# Altium schematic symbol library mcu_modules.SchLib: 15 symbols
Pins are listed as number, name and electrical type; pins without a type are passive.

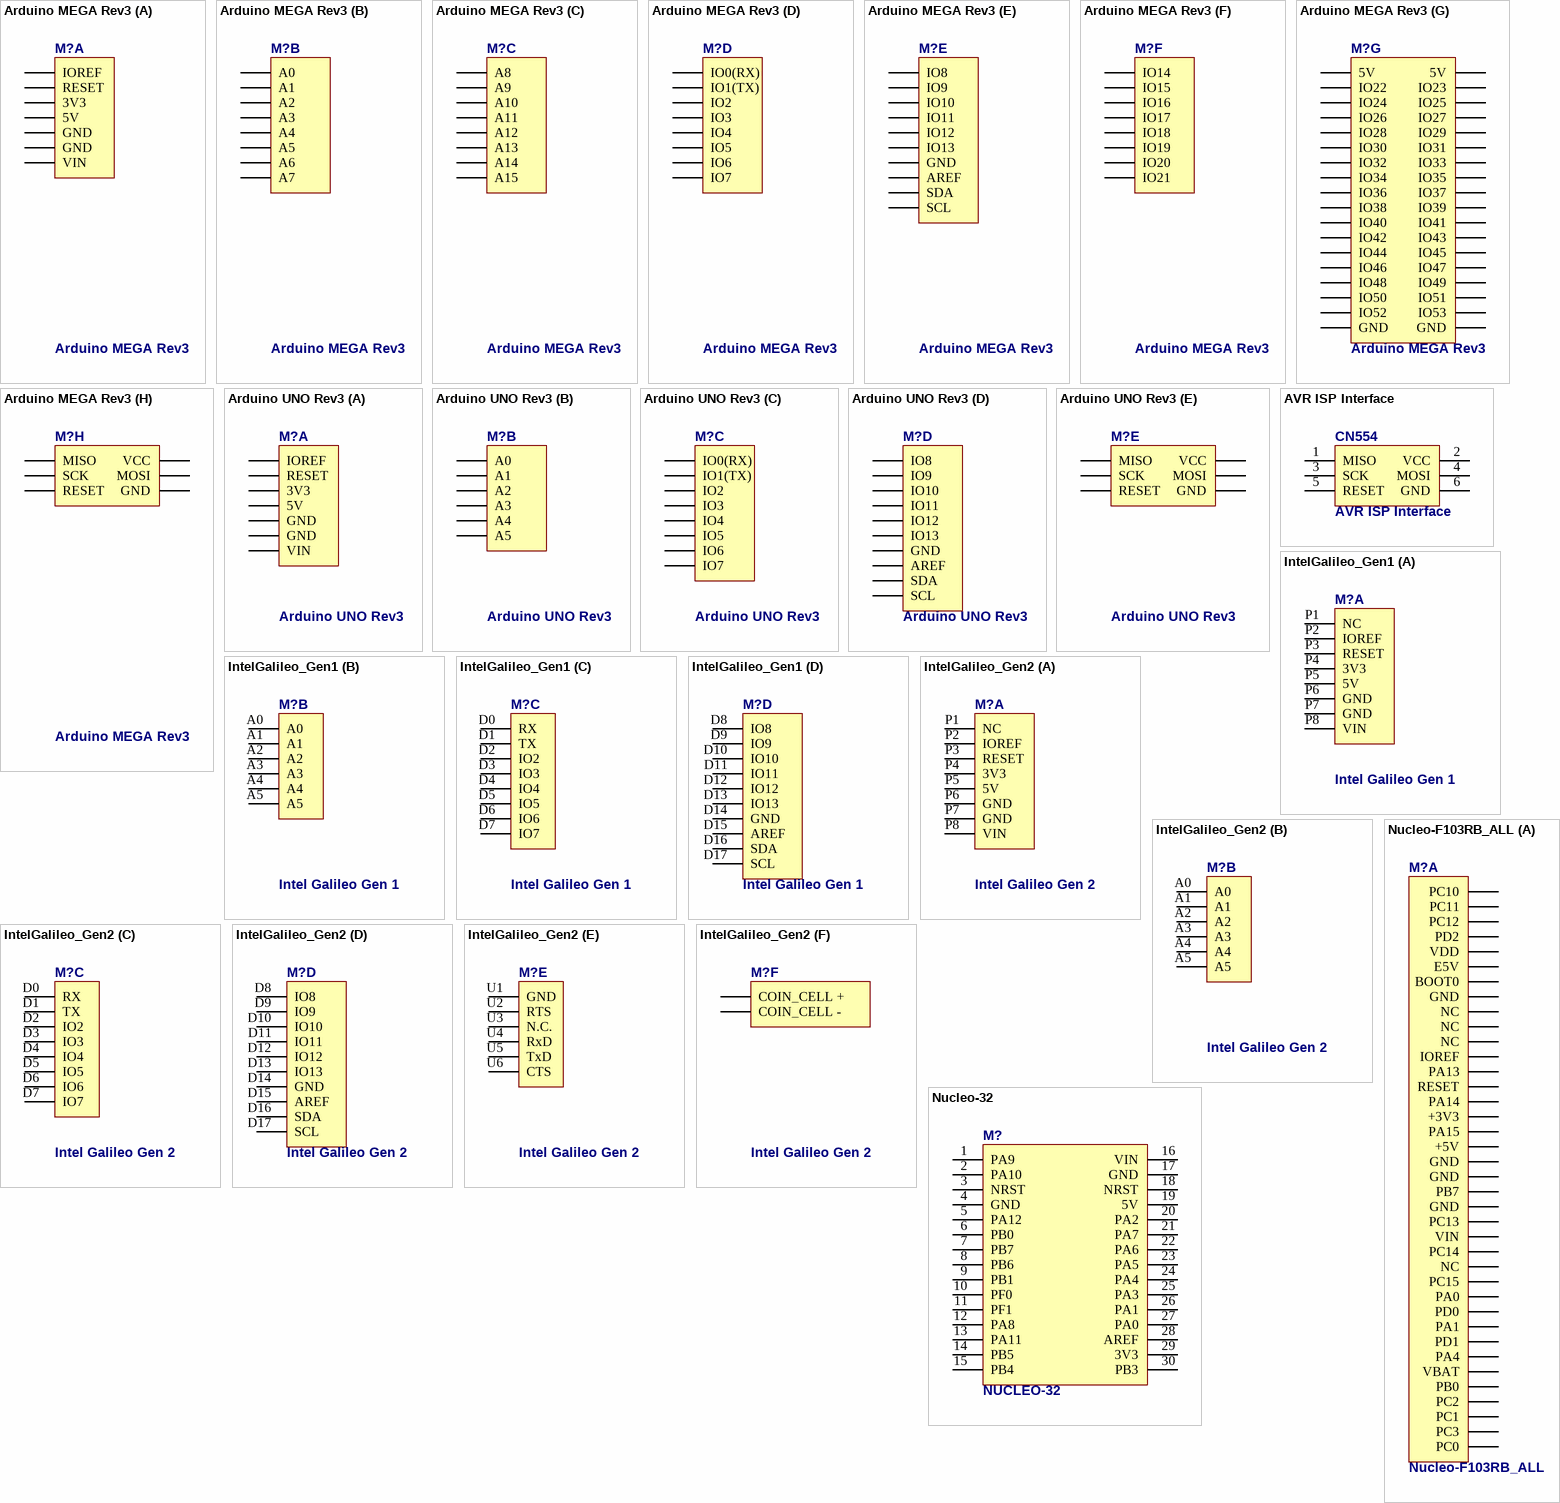
[diagram p0: symbols Arduino MEGA Rev3 to Nucleo-F103RB_ALL]

## Arduino MEGA Rev3
designator M?
Arduino MEGA Rev3 Board
footprint Arduino_MEGA
footprint Arduino_MEGA_UPSIDE_DOWN
part A pins: P2 IOREF, P3 RESET, P4 3V3, P5 5V, P6 GND, P7 GND, P8 VIN
part B pins: A0, A1, A2, A3, A4, A5, A6, A7
part C pins: A8, A9, A10, A11, A12, A13, A14, A15
part D pins: D0 IO0(RX), D1 IO1(TX), D2 IO2, D3 IO3, D4 IO4, D5 IO5, D6 IO6, D7 IO7
part E pins: AREF, D8 IO8, D9 IO9, D10 IO10, D11 IO11, D12 IO12, D13 IO13, GND, SCL, SDA
part F pins: D14 IO14, D15 IO15, D16 IO16, D17 IO17, D18 IO18, D19 IO19, D20 IO20, D21 IO21
part G pins: 5V, 5V, D22 IO22, D23 IO23, D24 IO24, D25 IO25, D26 IO26, D27 IO27, D28 IO28, D29 IO29, D30 IO30, D31 IO31, D32 IO32, D33 IO33, D34 IO34, D35 IO35, D36 IO36, D37 IO37, D38 IO38, D39 IO39, D40 IO40, D41 IO41, D42 IO42, D43 IO43, D44 IO44, D45 IO45, D46 IO46, D47 IO47, D48 IO48, D49 IO49, D50 IO50, D51 IO51, D52 IO52, D53 IO53, GND, GND
part H pins: PROG1 MISO, PROG2 VCC, PROG3 SCK, PROG4 MOSI, PROG5 RESET, PROG6 GND
1 alternate drawing of the same symbol

## Arduino UNO Rev3
designator M?
Arduino UNO Rev3 Board
footprint Arduino_UNO
footprint Arduino_UNO_UPSIDE_DOWN
part A pins: P2 IOREF, P3 RESET, P4 3V3, P5 5V, P6 GND, P7 GND, P8 VIN
part B pins: A0, A1, A2, A3, A4, A5
part C pins: D0 IO0(RX), D1 IO1(TX), D2 IO2, D3 IO3, D4 IO4, D5 IO5, D6 IO6, D7 IO7
part D pins: AREF, D8 IO8, D9 IO9, D10 IO10, D11 IO11, D12 IO12, D13 IO13, GND, SCL, SDA
part E pins: PROG1 MISO, PROG2 VCC, PROG3 SCK, PROG4 MOSI, PROG5 RESET, PROG6 GND
1 alternate drawing of the same symbol

## AVR ISP Interface
designator CN554
ISP Programming Header for AVR MCU's
footprint IDC6 (2x3pin 2,54mm)
footprint GP_3x2
footprint IDC6_RA (2.54mm, 6 Pin IDC Male Connector)
footprint GP_3x2H
footprint GP_3x2H_F
footprint GP_3x2_F
pins: 1 MISO, 2 VCC, 3 SCK, 4 MOSI, 5 RESET, 6 GND

## IntelGalileo_Gen1
designator M?, comment Intel Galileo Gen 1
Intel Galileo Quark SoC X1000 Application Processor Board
footprint IntelGalileo_Gen1
part A pins: P1 NC, P2 IOREF, P3 RESET, P4 3V3, P5 5V, P6 GND, P7 GND, P8 VIN
part B pins: A0, A1, A2, A3, A4, A5
part C pins: D0 RX, D1 TX, D2 IO2, D3 IO3, D4 IO4, D5 IO5, D6 IO6, D7 IO7
part D pins: D8 IO8, D9 IO9, D10 IO10, D11 IO11, D12 IO12, D13 IO13, D14 GND, D15 AREF, D16 SDA, D17 SCL

## IntelGalileo_Gen2
designator M?, comment Intel Galileo Gen 2
Intel Galileo Quark SoC X1000 Application Processor Board
footprint IntelGalileo_Gen2
part A pins: P1 NC, P2 IOREF, P3 RESET, P4 3V3, P5 5V, P6 GND, P7 GND, P8 VIN
part B pins: A0, A1, A2, A3, A4, A5
part C pins: D0 RX, D1 TX, D2 IO2, D3 IO3, D4 IO4, D5 IO5, D6 IO6, D7 IO7
part D pins: D8 IO8, D9 IO9, D10 IO10, D11 IO11, D12 IO12, D13 IO13, D14 GND, D15 AREF, D16 SDA, D17 SCL
part E pins: U1 GND, U2 RTS, U3 N.C., U4 RxD, U5 TxD, U6 CTS
part F pins: COIN+ COIN_CELL +, COIN- COIN_CELL -

## Nucleo-32
designator M?, comment NUCLEO-32
footprint NUCLEO-32
pins: 1 PA9, 2 PA10, 3 NRST, 4 GND, 5 PA12, 6 PB0, 7 PB7, 8 PB6, 9 PB1, 10 PF0, 11 PF1, 12 PA8, 13 PA11, 14 PB5, 15 PB4, 16 VIN, 17 GND, 18 NRST, 19 5V, 20 PA2, 21 PA7, 22 PA6, 23 PA5, 24 PA4, 25 PA3, 26 PA1, 27 PA0, 28 AREF, 29 3V3, 30 PB3

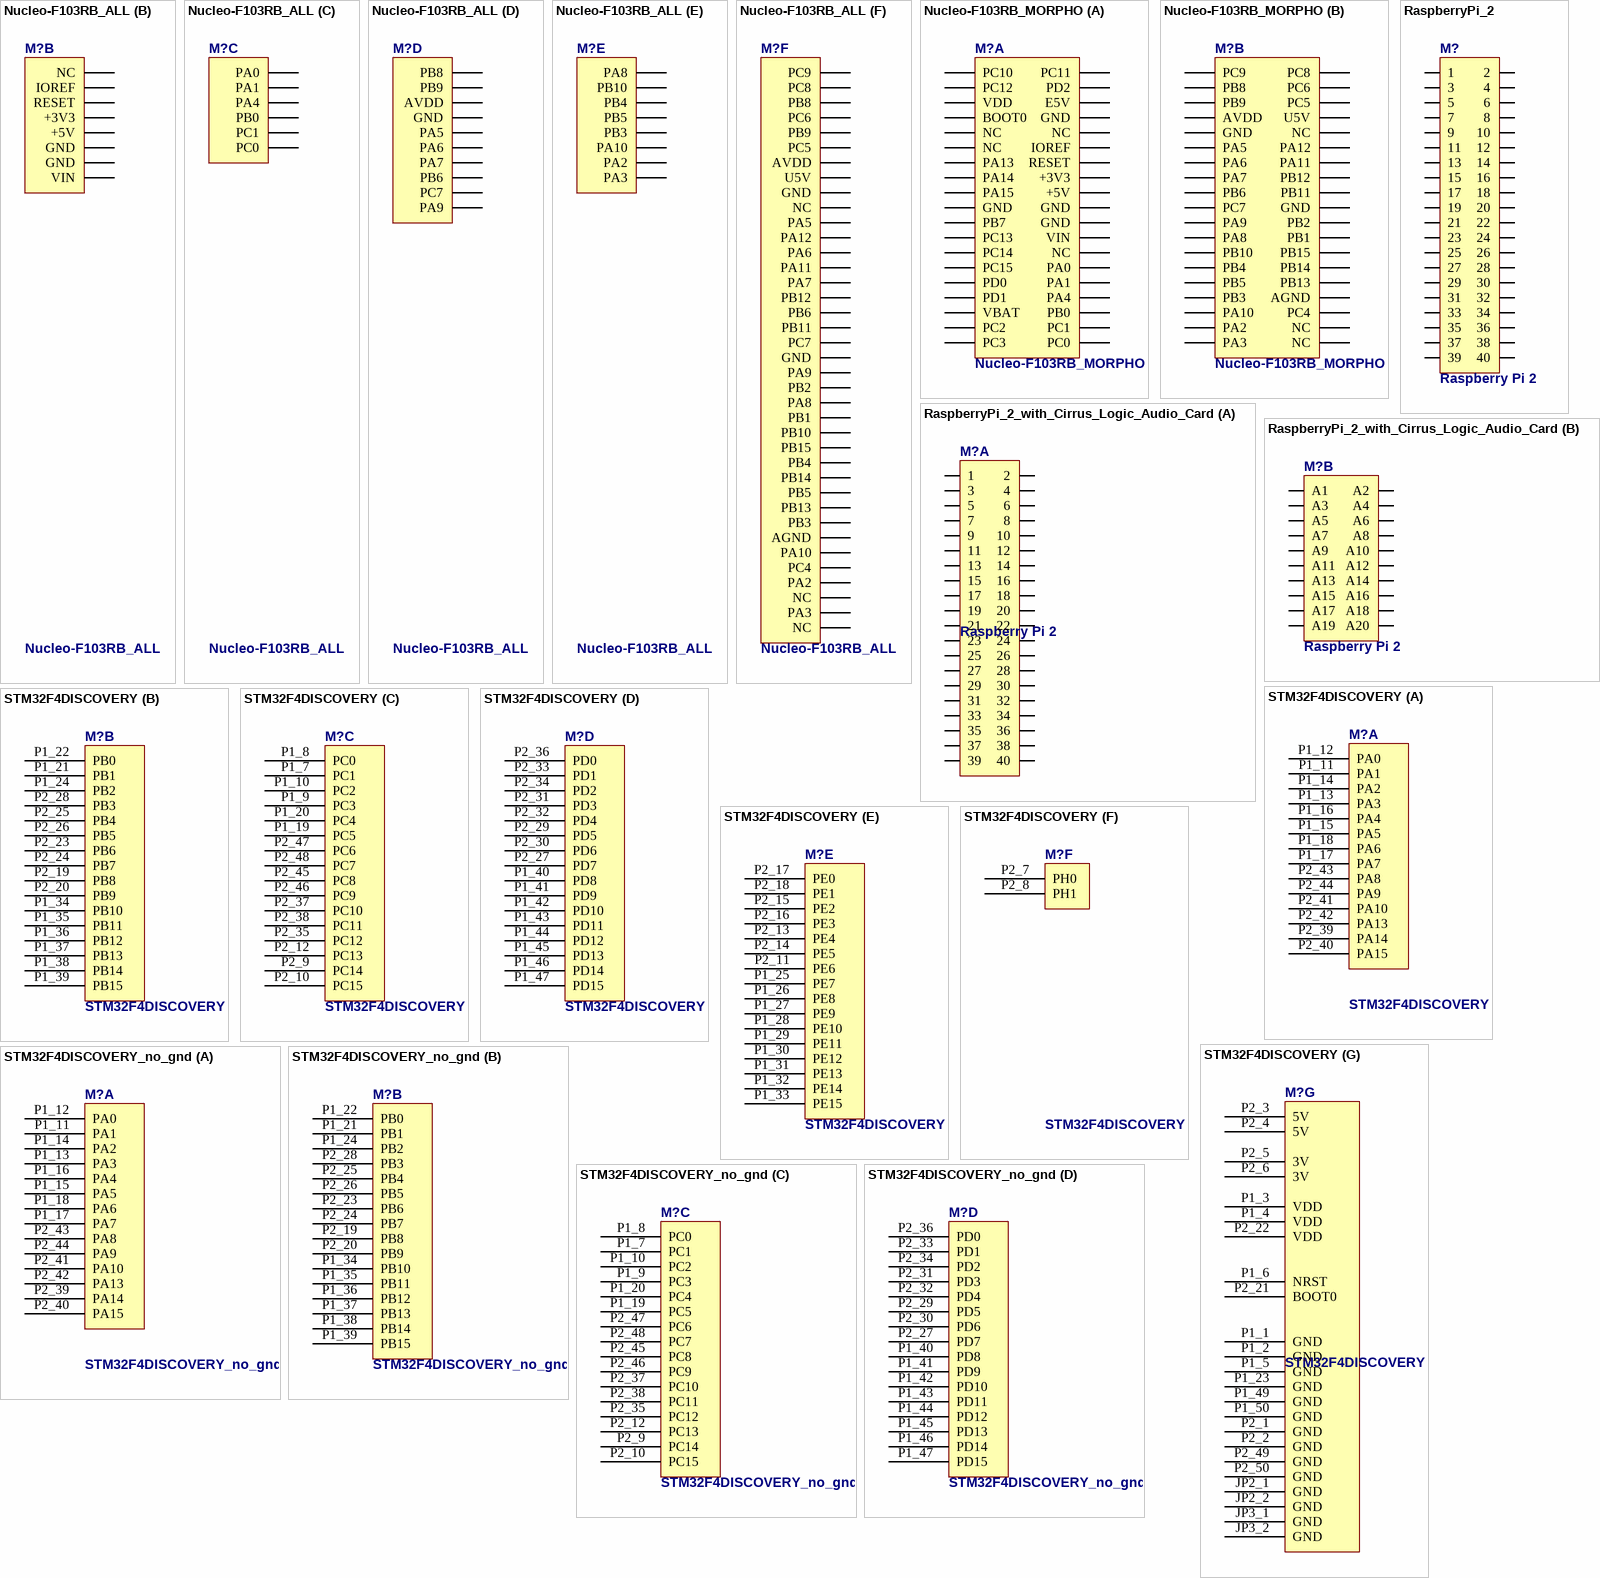
[diagram p1: symbols Nucleo-F103RB_ALL to STM32F4DISCOVERY_no_gnd]

## Nucleo-F103RB_ALL
designator M?
STM F103RB Nucelo Series Board
footprint NUCLEO-F103RB
part A pins: CN7_1 PC10, CN7_2 PC11, CN7_3 PC12, CN7_4 PD2, CN7_5 VDD, CN7_6 E5V, CN7_7 BOOT0, CN7_8 GND, CN7_9 NC, CN7_10 NC, CN7_11 NC, CN7_12 IOREF, CN7_13 PA13, CN7_14 RESET, CN7_15 PA14, CN7_16 +3V3, CN7_17 PA15, CN7_18 +5V, CN7_19 GND, CN7_20 GND, CN7_21 PB7, CN7_22 GND, CN7_23 PC13, CN7_24 VIN, CN7_25 PC14, CN7_26 NC, CN7_27 PC15, CN7_28 PA0, CN7_29 PD0, CN7_30 PA1, CN7_31 PD1, CN7_32 PA4, CN7_33 VBAT, CN7_34 PB0, CN7_35 PC2, CN7_36 PC1, CN7_37 PC3, CN7_38 PC0
part B pins: CN7_10 NC, CN7_12 IOREF, CN7_14 RESET, CN7_16 +3V3, CN7_18 +5V, CN7_20 GND, CN7_22 GND, CN7_24 VIN
part C pins: CN7_28 PA0, CN7_30 PA1, CN7_32 PA4, CN7_34 PB0, CN7_36 PC1, CN7_38 PC0
part D pins: CN10_3 PB8, CN10_5 PB9, CN10_7 AVDD, CN10_9 GND, CN10_11 PA5, CN10_13 PA6, CN10_15 PA7, CN10_17 PB6, CN10_19 PC7, CN10_21 PA9
part E pins: CN10_23 PA8, CN10_25 PB10, CN10_27 PB4, CN10_29 PB5, CN10_31 PB3, CN10_33 PA10, CN10_35 PA2, CN10_37 PA3
part F pins: CN10_1 PC9, CN10_2 PC8, CN10_3 PB8, CN10_4 PC6, CN10_5 PB9, CN10_6 PC5, CN10_7 AVDD, CN10_8 U5V, CN10_9 GND, CN10_10 NC, CN10_11 PA5, CN10_12 PA12, CN10_13 PA6, CN10_14 PA11, CN10_15 PA7, CN10_16 PB12, CN10_17 PB6, CN10_18 PB11, CN10_19 PC7, CN10_20 GND, CN10_21 PA9, CN10_22 PB2, CN10_23 PA8, CN10_24 PB1, CN10_25 PB10, CN10_26 PB15, CN10_27 PB4, CN10_28 PB14, CN10_29 PB5, CN10_30 PB13, CN10_31 PB3, CN10_32 AGND, CN10_33 PA10, CN10_34 PC4, CN10_35 PA2, CN10_36 NC, CN10_37 PA3, CN10_38 NC

## Nucleo-F103RB_MORPHO
designator M?
STM F103RB Nucelo Series Board
footprint NUCLEO-F103RB
part A pins: CN7_1 PC10, CN7_2 PC11, CN7_3 PC12, CN7_4 PD2, CN7_5 VDD, CN7_6 E5V, CN7_7 BOOT0, CN7_8 GND, CN7_9 NC, CN7_10 NC, CN7_11 NC, CN7_12 IOREF, CN7_13 PA13, CN7_14 RESET, CN7_15 PA14, CN7_16 +3V3, CN7_17 PA15, CN7_18 +5V, CN7_19 GND, CN7_20 GND, CN7_21 PB7, CN7_22 GND, CN7_23 PC13, CN7_24 VIN, CN7_25 PC14, CN7_26 NC, CN7_27 PC15, CN7_28 PA0, CN7_29 PD0, CN7_30 PA1, CN7_31 PD1, CN7_32 PA4, CN7_33 VBAT, CN7_34 PB0, CN7_35 PC2, CN7_36 PC1, CN7_37 PC3, CN7_38 PC0
part B pins: CN10_1 PC9, CN10_2 PC8, CN10_3 PB8, CN10_4 PC6, CN10_5 PB9, CN10_6 PC5, CN10_7 AVDD, CN10_8 U5V, CN10_9 GND, CN10_10 NC, CN10_11 PA5, CN10_12 PA12, CN10_13 PA6, CN10_14 PA11, CN10_15 PA7, CN10_16 PB12, CN10_17 PB6, CN10_18 PB11, CN10_19 PC7, CN10_20 GND, CN10_21 PA9, CN10_22 PB2, CN10_23 PA8, CN10_24 PB1, CN10_25 PB10, CN10_26 PB15, CN10_27 PB4, CN10_28 PB14, CN10_29 PB5, CN10_30 PB13, CN10_31 PB3, CN10_32 AGND, CN10_33 PA10, CN10_34 PC4, CN10_35 PA2, CN10_36 NC, CN10_37 PA3, CN10_38 NC

## RaspberryPi_2
designator M?, comment Raspberry Pi 2
footprint Raspberry_PI_2
pins: 1, 2, 3, 4, 5, 6, 7, 8, 9, 10, 11, 12, 13, 14, 15, 16, 17, 18, 19, 20, 21, 22, 23, 24, 25, 26, 27, 28, 29, 30, 31, 32, 33, 34, 35, 36, 37, 38, 39, 40

## RaspberryPi_2_with_Cirrus_Logic_Audio_Card
designator M?, comment Raspberry Pi 2
footprint Raspberry_PI_2_with_Cirrus_Logic_Audio_Card
part A pins: 1, 2, 3, 4, 5, 6, 7, 8, 9, 10, 11, 12, 13, 14, 15, 16, 17, 18, 19, 20, 21, 22, 23, 24, 25, 26, 27, 28, 29, 30, 31, 32, 33, 34, 35, 36, 37, 38, 39, 40
part B pins: A1, A2, A3, A4, A5, A6, A7, A8, A9, A10, A11, A12, A13, A14, A15, A16, A17, A18, A19, A20

## STM32F4DISCOVERY
designator M?
STM32F4DISCOVERY Board
footprint STM32F4DISCOVERY
part A pins: P1_11 PA1, P1_12 PA0, P1_13 PA3, P1_14 PA2, P1_15 PA5, P1_16 PA4, P1_17 PA7, P1_18 PA6, P1_48 NC hidden, P2_39 PA14, P2_40 PA15, P2_41 PA10, P2_42 PA13, P2_43 PA8, P2_44 PA9
part B pins: P1_21 PB1, P1_22 PB0, P1_24 PB2, P1_34 PB10, P1_35 PB11, P1_36 PB12, P1_37 PB13, P1_38 PB14, P1_39 PB15, P2_19 PB8, P2_20 PB9, P2_23 PB6, P2_24 PB7, P2_25 PB4, P2_26 PB5, P2_28 PB3
part C pins: P1_7 PC1, P1_8 PC0, P1_9 PC3, P1_10 PC2, P1_19 PC5, P1_20 PC4, P2_9 PC14, P2_10 PC15, P2_12 PC13, P2_35 PC12, P2_37 PC10, P2_38 PC11, P2_45 PC8, P2_46 PC9, P2_47 PC6, P2_48 PC7
part D pins: P1_40 PD8, P1_41 PD9, P1_42 PD10, P1_43 PD11, P1_44 PD12, P1_45 PD13, P1_46 PD14, P1_47 PD15, P2_27 PD7, P2_29 PD5, P2_30 PD6, P2_31 PD3, P2_32 PD4, P2_33 PD1, P2_34 PD2, P2_36 PD0
part E pins: P1_25 PE7, P1_26 PE8, P1_27 PE9, P1_28 PE10, P1_29 PE11, P1_30 PE12, P1_31 PE13, P1_32 PE14, P1_33 PE15, P2_11 PE6, P2_13 PE4, P2_14 PE5, P2_15 PE2, P2_16 PE3, P2_17 PE0, P2_18 PE1
part F pins: P2_7 PH0, P2_8 PH1
part G pins: JP2_1 GND, JP2_2 GND, JP3_1 GND, JP3_2 GND, P1_1 GND, P1_2 GND, P1_3 VDD, P1_4 VDD, P1_5 GND, P1_6 NRST, P1_23 GND, P1_49 GND, P1_50 GND, P2_1 GND, P2_2 GND, P2_3 5V, P2_4 5V, P2_5 3V, P2_6 3V, P2_21 BOOT0, P2_22 VDD, P2_49 GND, P2_50 GND

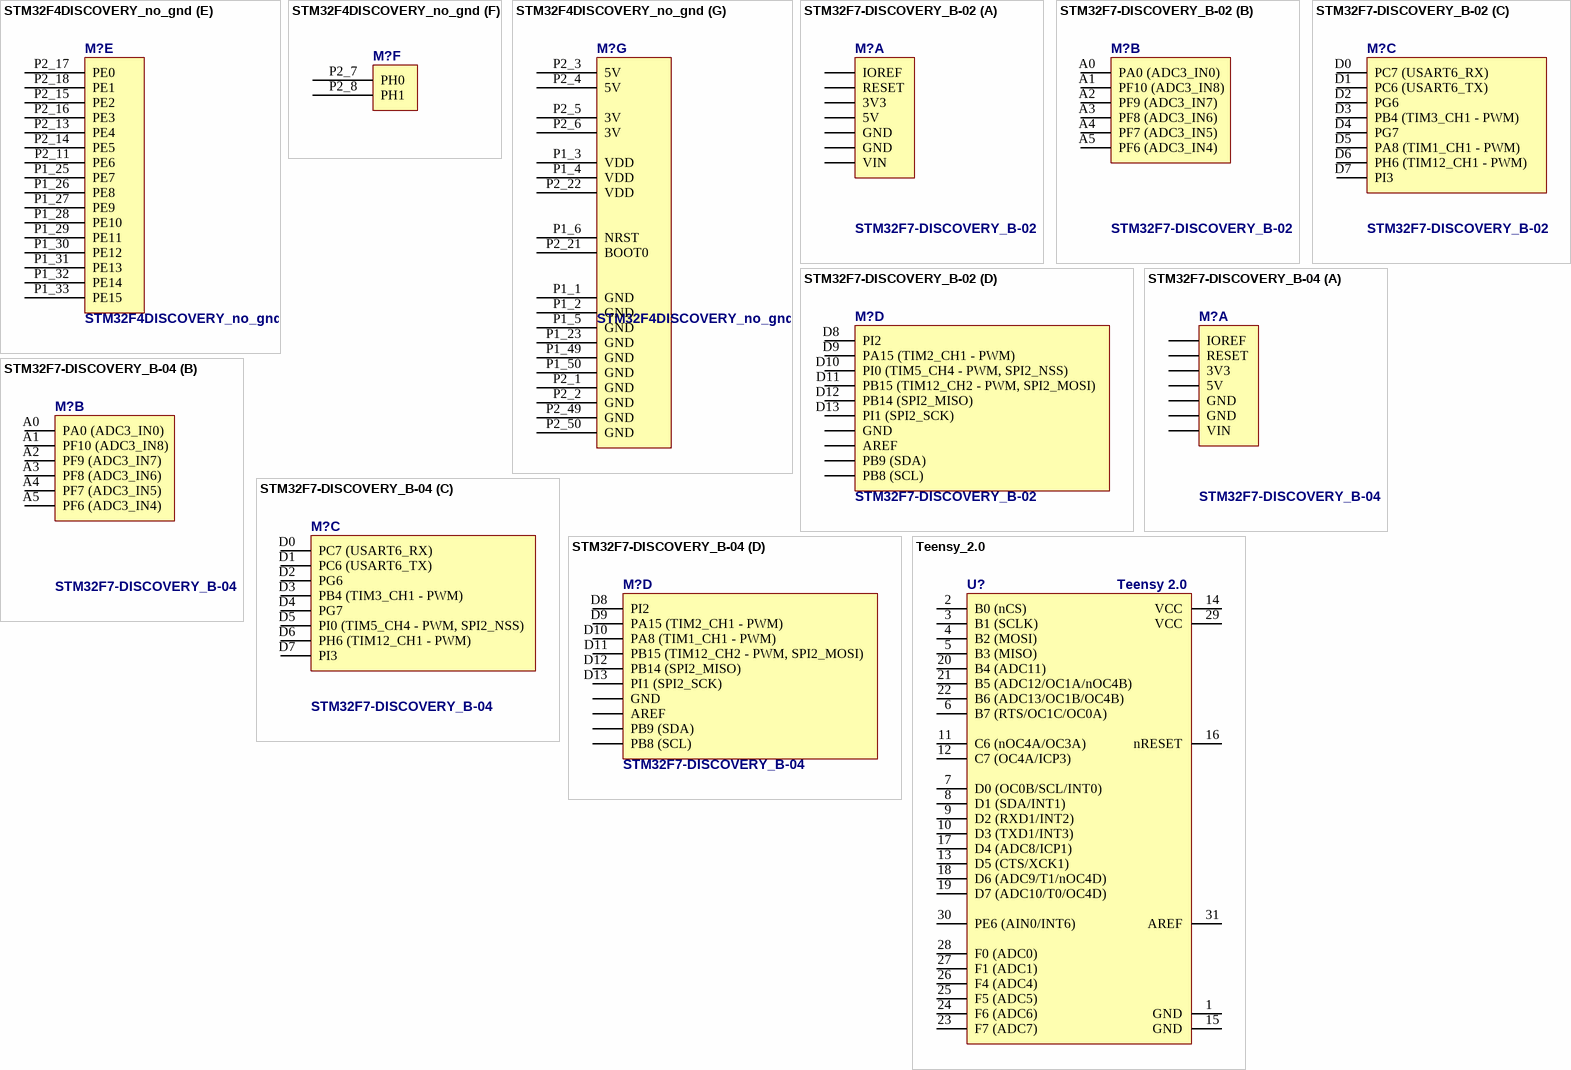
[diagram p2: symbols STM32F4DISCOVERY_no_gnd to Teensy_2.0]

## STM32F4DISCOVERY_no_gnd
designator M?
STM32F4DISCOVERY Board
footprint STM32F4DISCOVERY_NO_GND
part A pins: P1_11 PA1, P1_12 PA0, P1_13 PA3, P1_14 PA2, P1_15 PA5, P1_16 PA4, P1_17 PA7, P1_18 PA6, P1_48 NC hidden, P2_39 PA14, P2_40 PA15, P2_41 PA10, P2_42 PA13, P2_43 PA8, P2_44 PA9
part B pins: P1_21 PB1, P1_22 PB0, P1_24 PB2, P1_34 PB10, P1_35 PB11, P1_36 PB12, P1_37 PB13, P1_38 PB14, P1_39 PB15, P2_19 PB8, P2_20 PB9, P2_23 PB6, P2_24 PB7, P2_25 PB4, P2_26 PB5, P2_28 PB3
part C pins: P1_7 PC1, P1_8 PC0, P1_9 PC3, P1_10 PC2, P1_19 PC5, P1_20 PC4, P2_9 PC14, P2_10 PC15, P2_12 PC13, P2_35 PC12, P2_37 PC10, P2_38 PC11, P2_45 PC8, P2_46 PC9, P2_47 PC6, P2_48 PC7
part D pins: P1_40 PD8, P1_41 PD9, P1_42 PD10, P1_43 PD11, P1_44 PD12, P1_45 PD13, P1_46 PD14, P1_47 PD15, P2_27 PD7, P2_29 PD5, P2_30 PD6, P2_31 PD3, P2_32 PD4, P2_33 PD1, P2_34 PD2, P2_36 PD0
part E pins: P1_25 PE7, P1_26 PE8, P1_27 PE9, P1_28 PE10, P1_29 PE11, P1_30 PE12, P1_31 PE13, P1_32 PE14, P1_33 PE15, P2_11 PE6, P2_13 PE4, P2_14 PE5, P2_15 PE2, P2_16 PE3, P2_17 PE0, P2_18 PE1
part F pins: P2_7 PH0, P2_8 PH1
part G pins: P1_1 GND, P1_2 GND, P1_3 VDD, P1_4 VDD, P1_5 GND, P1_6 NRST, P1_23 GND, P1_49 GND, P1_50 GND, P2_1 GND, P2_2 GND, P2_3 5V, P2_4 5V, P2_5 3V, P2_6 3V, P2_21 BOOT0, P2_22 VDD, P2_49 GND, P2_50 GND

## STM32F7-DISCOVERY_B-02
designator M?
STM32F7-DISCOVERY Board
footprint STM32F7-DISCOVERY
part A pins: P2 IOREF, P3 RESET, P4 3V3, P5 5V, P6 GND, P7 GND, P8 VIN
part B pins: A0 PA0 (ADC3_IN0), A1 PF10 (ADC3_IN8), A2 PF9 (ADC3_IN7), A3 PF8 (ADC3_IN6), A4 PF7 (ADC3_IN5), A5 PF6 (ADC3_IN4)
part C pins: D0 PC7 (USART6_RX), D1 PC6 (USART6_TX), D2 PG6, D3 PB4 (TIM3_CH1 - PWM), D4 PG7, D5 PA8 (TIM1_CH1 - PWM), D6 PH6 (TIM12_CH1 - PWM), D7 PI3
part D pins: AREF, D8 PI2, D9 PA15 (TIM2_CH1 - PWM), D10 PI0 (TIM5_CH4 - PWM, SPI2_NSS), D11 PB15 (TIM12_CH2 - PWM, SPI2_MOSI), D12 PB14 (SPI2_MISO), D13 PI1 (SPI2_SCK), GND, SCL PB8 (SCL), SDA PB9 (SDA)

## STM32F7-DISCOVERY_B-04
designator M?
STM32F7-DISCOVERY Board
footprint STM32F7-DISCOVERY
part A pins: P2 IOREF, P3 RESET, P4 3V3, P5 5V, P6 GND, P7 GND, P8 VIN
part B pins: A0 PA0 (ADC3_IN0), A1 PF10 (ADC3_IN8), A2 PF9 (ADC3_IN7), A3 PF8 (ADC3_IN6), A4 PF7 (ADC3_IN5), A5 PF6 (ADC3_IN4)
part C pins: D0 PC7 (USART6_RX), D1 PC6 (USART6_TX), D2 PG6, D3 PB4 (TIM3_CH1 - PWM), D4 PG7, D5 PI0 (TIM5_CH4 - PWM, SPI2_NSS), D6 PH6 (TIM12_CH1 - PWM), D7 PI3
part D pins: AREF, D8 PI2, D9 PA15 (TIM2_CH1 - PWM), D10 PA8 (TIM1_CH1 - PWM), D11 PB15 (TIM12_CH2 - PWM, SPI2_MOSI), D12 PB14 (SPI2_MISO), D13 PI1 (SPI2_SCK), GND, SCL PB8 (SCL), SDA PB9 (SDA)

## Teensy_2.0
designator U?, comment Teensy 2.0
PJRC Teensy 2.0 USB Development Board
footprint TEENSY_2
pins: 1 GND, 2 B0 (nCS), 3 B1 (SCLK), 4 B2 (MOSI), 5 B3 (MISO), 6 B7 (RTS/OC1C/OC0A), 7 D0 (OC0B/SCL/INT0), 8 D1 (SDA/INT1), 9 D2 (RXD1/INT2), 10 D3 (TXD1/INT3), 11 C6 (nOC4A/OC3A), 12 C7 (OC4A/ICP3), 13 D5 (CTS/XCK1), 14 VCC, 15 GND, 16 nRESET, 17 D4 (ADC8/ICP1), 18 D6 (ADC9/T1/nOC4D), 19 D7 (ADC10/T0/OC4D), 20 B4 (ADC11), 21 B5 (ADC12/OC1A/nOC4B), 22 B6 (ADC13/OC1B/OC4B), 23 F7 (ADC7), 24 F6 (ADC6), 25 F5 (ADC5), 26 F4 (ADC4), 27 F1 (ADC1), 28 F0 (ADC0), 29 VCC, 30 PE6 (AIN0/INT6), 31 AREF